# EAGLE library part SN74HC148D (library SN74HC148D)
8:3 line Priority Encoder
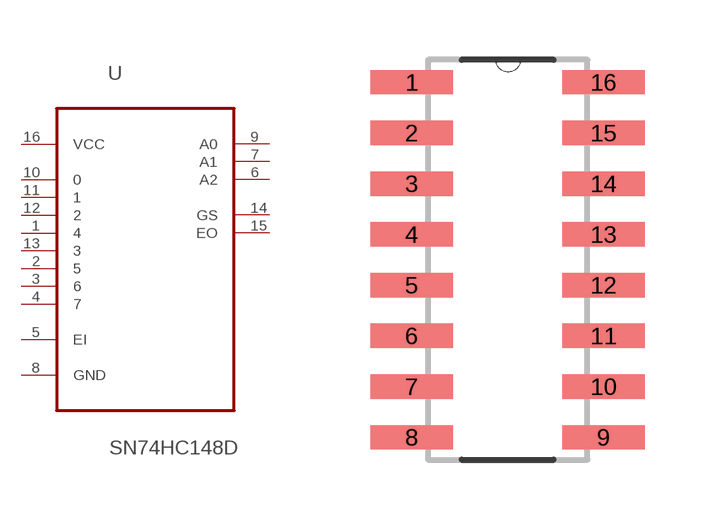
[diagram p0: symbol with the pads of SOIC127P600X175-16N; footprint SOIC127P600X175-16N]

Designator prefix U

## SN74HC148D (Availability: Unavailable; Description: IC 8-TO-3 PRIORITY ENCOD 16-SOIC; MF: Texas Instruments; MP: SN74HC148D; Package: SOIC-16 Texas Instruments; Price: None)  [SOIC127P600X175-16N]
1  4  in
2  5  in
3  6  in
4  7  in
5  EI  in
6  A2  out
7  A1  out
8  GND  pas
9  A0  out
10  0  in
11  1  in
12  2  in
13  3  in
14  GS  out
15  EO  out
16  VCC  pwr

## Footprint SOIC127P600X175-16N (pad centres in mm)
smd 2.057 x 0.61: 1 -4.801,8.89; 2 -4.801,7.62; 3 -4.801,6.35; 4 -4.801,5.08; 5 -4.801,3.81; 6 -4.801,2.54; 7 -4.801,1.27; 8 -4.801,0; 9 0,0; 10 0,1.27; 11 0,2.54; 12 0,3.81; 13 0,5.08; 14 0,6.35; 15 0,7.62; 16 0,8.89